# Altium integrated library NSC Amplifier.IntLib: 733 symbols (part 14 of 19)
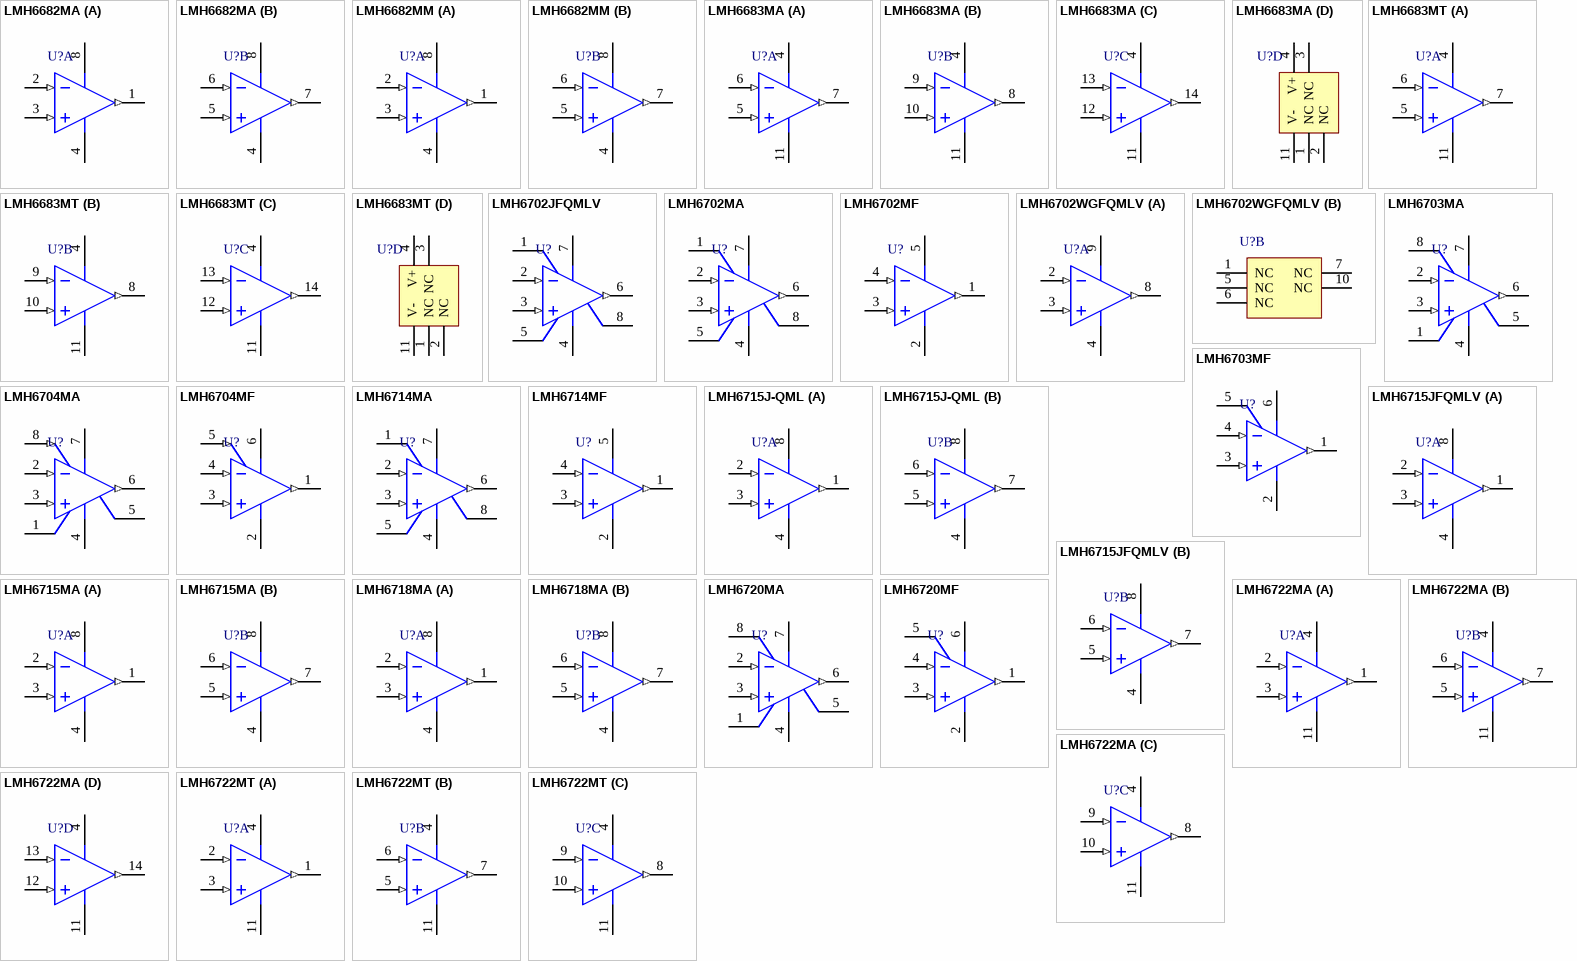
[diagram p52: symbols LMH6682MA to LMH6722MT]

## LMH6722MA
designator U?
Quad Wideband Video Op Amp; PartNumber: LMH6722MA; Manufacturer: National Semiconductor; CompType: Amplifiers; PackageTopMarking: NSUZXYTT*LMH67*22MA; PowerWise: Y; Published: 4-Dec-2008; LatestRevisionDate: 13-Jan-2009; LatestRevisionNote: Sim Model Added.; DatasheetVersion: Oct-2008; PackageVersion: revJ, Jan-1996; PackageReference: M14A; Publisher: Altium Limited; PackageDescription: Molded Package S.O., .150in Wide, 14 Lead; RoHS: O; PinCount: 14; DigiKeyPartNumber: LMH6722MA-ND; Code_JEDEC: MS-012AB; Code_IPC: SOIC127P600-14; ComponentLink1Description: LMH6722 Datasheet; ComponentLink1URL: http://www.national.com/ds/LM/LMH6722.pdf; ComponentLink2Description: LMH6722 Web Page; ComponentLink2URL: http://www.national.com/pf/LM/LMH6722.html; ComponentLink3Description: M14A Package Page; ComponentLink3URL: http://www.national.com/packaging/folders/m14a.html
footprint M14A_N (SOIC, 14-Leads, Body 8.6x3.9mm, Pitch 1.27mm, IPC Medium Density)
footprint M14A_L (SOIC, 14-Leads, Body 8.6x3.9mm, Pitch 1.27mm, IPC High Density)
footprint M14A_M (SOIC, 14-Leads, Body 8.6x3.9mm, Pitch 1.27mm, IPC Low Density)
simulation model LMH6722 (SUBCKT)
pins on every part: 4 V+ (power), 11 V- (power)
part A pins: 1 OUTA (out), 2 INA- (in), 3 INA+ (in)
part B pins: 5 INB+ (in), 6 INB- (in), 7 OUTB (out)
part C pins: 8 OUTC (out), 9 INC- (in), 10 INC+ (in)
part D pins: 12 IND+ (in), 13 IND- (in), 14 OUTD (out)

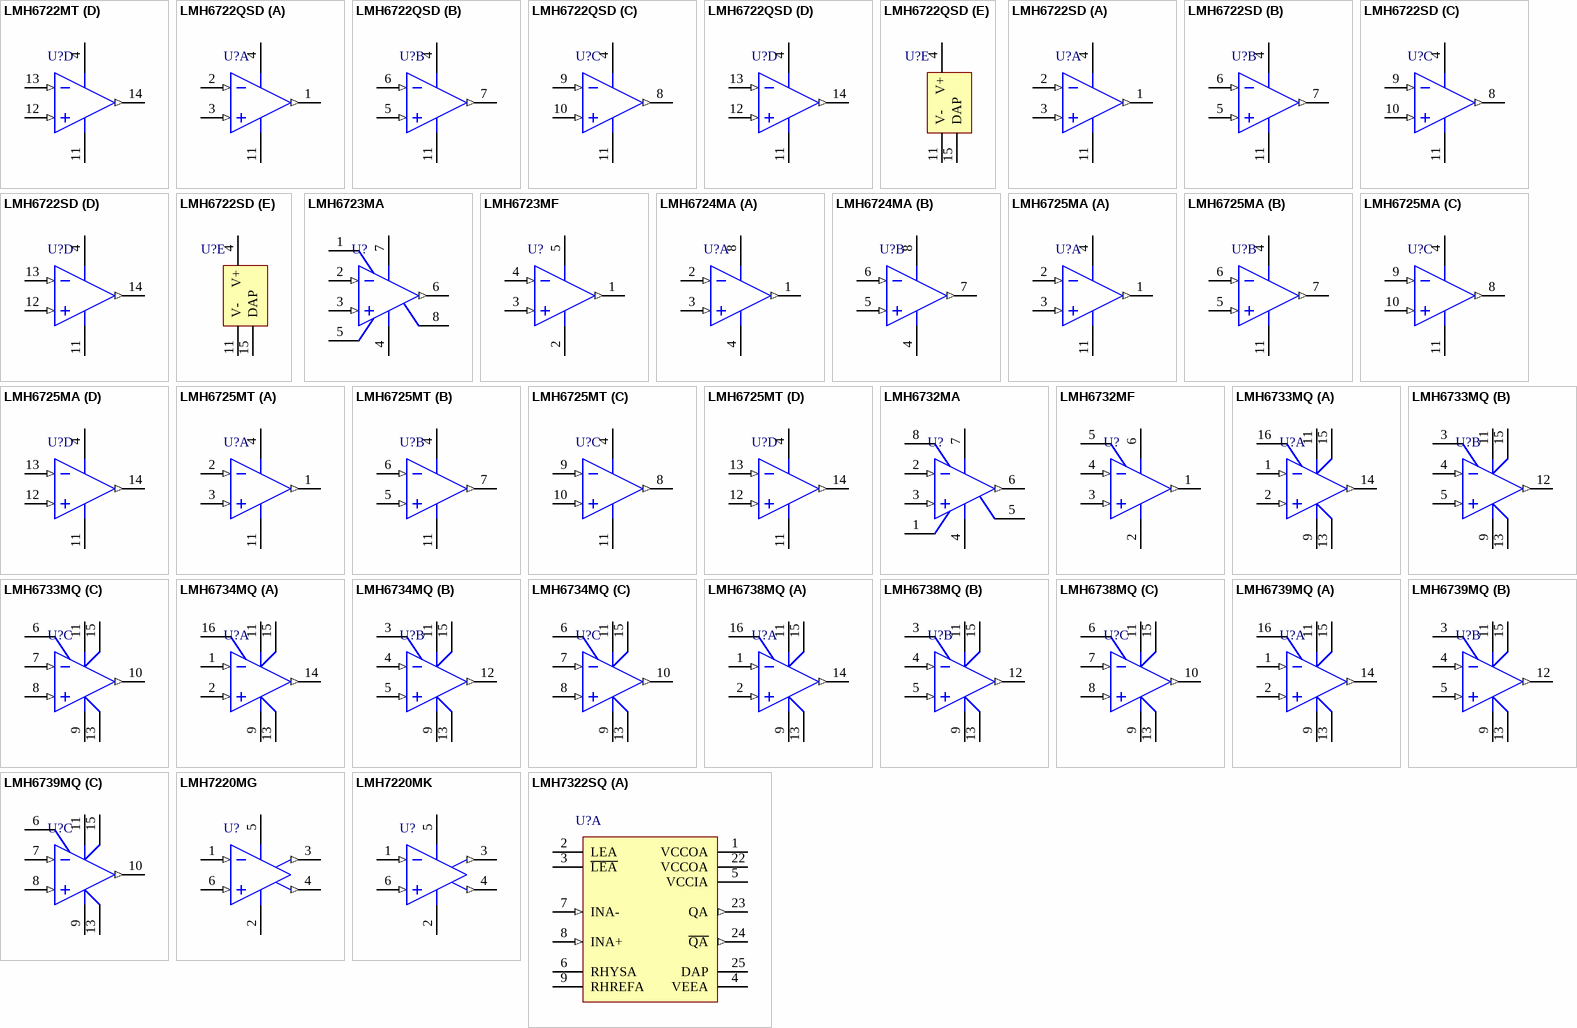
[diagram p29: symbols LMH6722MT to LMH7322SQ]

## LMH6722MT
designator U?
Quad Wideband Video Op Amp; PartNumber: LMH6722MT; Manufacturer: National Semiconductor; CompType: Amplifiers; PackageTopMarking: NSUZXYTT*LMH67*22MT; PowerWise: Y; Published: 4-Dec-2008; LatestRevisionDate: 13-Jan-2009; LatestRevisionNote: Sim Model Added.; DatasheetVersion: Oct-2008; PackageVersion: revD, Jun-2003; PackageReference: MTC14; Publisher: Altium Limited; PackageDescription: Molded TSSOP, JEDEC, 5 x 4.4 x 0.9mm Body, 14 Lead, 0.65mm Pitch; RoHS: Y; PinCount: 14; DigiKeyPartNumber: LMH6722MT-ND; Code_JEDEC: MO-153-AB-1; ComponentLink1Description: LMH6722 Datasheet; ComponentLink1URL: http://www.national.com/ds/LM/LMH6722.pdf; ComponentLink2Description: LMH6722 Web Page; ComponentLink2URL: http://www.national.com/pf/LM/LMH6722.html; ComponentLink3Description: MTC14 Package Page; ComponentLink3URL: http://www.national.com/packaging/folders/mtc14.html
footprint MTC14_N (TSOP, 14-Leads, Body 5x4.4mm, Pitch 0.65mm, IPC Medium Density)
footprint MTC14_L (TSOP, 14-Leads, Body 5x4.4mm, Pitch 0.65mm, IPC High Density)
footprint MTC14_M (TSOP, 14-Leads, Body 5x4.4mm, Pitch 0.65mm, IPC Low Density)
simulation model LMH6722 (SUBCKT)
pins on every part: 4 V+ (power), 11 V- (power)
part A pins: 1 OUTA (out), 2 INA- (in), 3 INA+ (in)
part B pins: 5 INB+ (in), 6 INB- (in), 7 OUTB (out)
part C pins: 8 OUTC (out), 9 INC- (in), 10 INC+ (in)
part D pins: 12 IND+ (in), 13 IND- (in), 14 OUTD (out)

## LMH6722QSD
designator U?
Quad Wideband Video Op Amp; PartNumber: LMH6722QSD; Manufacturer: National Semiconductor; CompType: Amplifiers; PackageTopMarking: ZXYTT*L6722Q; PowerWise: N; Published: 4-Dec-2008; DatasheetVersion: Oct-2008; PackageVersion: revA, Jun-2003; PackageReference: SDA14A; Publisher: Altium Limited; PackageDescription: LLP, Plastic, Dual, 4 x 3 x 0.8mm Body, 14 Lead, 0.5mm Pitch, No Pullback; RoHS: Y; PinCount: 14; ComponentLink1Description: LMH6722Q Datasheet; ComponentLink1URL: http://www.national.com/ds/LM/LMH6722.pdf; ComponentLink2Description: LMH6722Q Web Page; ComponentLink2URL: http://www.national.com/pf/LM/LMH6722Q.html; ComponentLink3Description: SDA14A Package Page; ComponentLink3URL: http://www.national.com/packaging/folders/sda14a.html
footprint SDA14A (SON, 14-Leads, Body 4x3mm, Pitch 0.5mm, NSC Recommended)
pins on every part: 4 V+ (power), 11 V- (power)
part A pins: 1 OUTA (out), 2 INA- (in), 3 INA+ (in)
part B pins: 5 INB+ (in), 6 INB- (in), 7 OUTB (out)
part C pins: 8 OUTC (out), 9 INC- (in), 10 INC+ (in)
part D pins: 12 IND+ (in), 13 IND- (in), 14 OUTD (out)
part E pins: 15 DAP

## LMH6722SD
designator U?
Quad Wideband Video Op Amp; PartNumber: LMH6722SD; Manufacturer: National Semiconductor; CompType: Amplifiers; PackageTopMarking: ZXYTT*L6722; PowerWise: N; Published: 4-Dec-2008; DatasheetVersion: Oct-2008; PackageVersion: revA, Jun-2003; PackageReference: SDA14A; Publisher: Altium Limited; PackageDescription: LLP, Plastic, Dual, 4 x 3 x 0.8mm Body, 14 Lead, 0.5mm Pitch, No Pullback; RoHS: Y; PinCount: 14; ComponentLink1Description: LMH6722 Datasheet; ComponentLink1URL: http://www.national.com/ds/LM/LMH6722.pdf; ComponentLink2Description: LMH6722 Web Page; ComponentLink2URL: http://www.national.com/pf/LM/LMH6722.html; ComponentLink3Description: SDA14A Package Page; ComponentLink3URL: http://www.national.com/packaging/folders/sda14a.html
footprint SDA14A (SON, 14-Leads, Body 4x3mm, Pitch 0.5mm, NSC Recommended)
pins on every part: 4 V+ (power), 11 V- (power)
part A pins: 1 OUTA (out), 2 INA- (in), 3 INA+ (in)
part B pins: 5 INB+ (in), 6 INB- (in), 7 OUTB (out)
part C pins: 8 OUTC (out), 9 INC- (in), 10 INC+ (in)
part D pins: 12 IND+ (in), 13 IND- (in), 14 OUTD (out)
part E pins: 15 DAP

## LMH6723MA
designator U?
Single/Quad 370 MHz 1 mA Current Feedback Op Amp; PartNumber: LMH6723MA; Manufacturer: National Semiconductor; CompType: Amplifiers; PackageTopMarking: NSZXTT*LMH67*23MA; PowerWise: Y; Published: 4-Dec-2008; LatestRevisionDate: 13-Jan-2009; LatestRevisionNote: Sim Model Added.; DatasheetVersion: Aug-2005; PackageVersion: revL, Sep-2006; PackageReference: M08A; Publisher: Altium Limited; PackageDescription: SOIC Narrow, 4.9 x 3.9 x 1.45mm, 8 Lead, 1.27mm Pitch; RoHS: O; PinCount: 8; DigiKeyPartNumber: LMH6723MA-ND; Code_JEDEC: MS-012-AA; Code_IPC: SOIC127P600-8; ComponentLink1Description: LMH6723 Datasheet; ComponentLink1URL: http://www.national.com/ds/LM/LMH6723.pdf; ComponentLink2Description: LMH6723 Web Page; ComponentLink2URL: http://www.national.com/pf/LM/LMH6723.html; ComponentLink3Description: M08A Package Page; ComponentLink3URL: http://www.national.com/packaging/folders/m08a.html
footprint M08A_N (SOIC, 8-Leads, Body 4.9x3.9mm, Pitch 1.27mm, IPC Medium Density)
footprint M08A_L (SOIC, 8-Leads, Body 4.9x3.9mm, Pitch 1.27mm, IPC High Density)
footprint M08A_M (SOIC, 8-Leads, Body 4.9x3.9mm, Pitch 1.27mm, IPC Low Density)
simulation model LMH6723 (SUBCKT)
pins: 1 NC, 2 IN- (in), 3 IN+ (in), 4 V- (power), 5 NC, 6 OUT (out), 7 V+ (power), 8 NC

## LMH6723MF
designator U?
Single/Quad 370 MHz 1 mA Current Feedback Op Amp; PartNumber: LMH6723MF; Manufacturer: National Semiconductor; CompType: Amplifiers; PackageTopMarking: AB1A*XTT; Published: 4-Dec-2008; LatestRevisionDate: 13-Jan-2009; LatestRevisionNote: Sim Model Added.; DatasheetVersion: Aug-2005; PackageVersion: revD, Aug-2008; PackageReference: MF05A; Publisher: Altium Limited; PackageDescription: Molded SOT-23, .115 x .063 x .040 in Body, 5 Lead, .0375 in Pitch; RoHS: Y; PinCount: 5; DigiKeyPartNumber: LMH6723MFCT-ND; Code_IPC: SOT23-5; ComponentLink1Description: LMH6723 Datasheet; ComponentLink1URL: http://www.national.com/ds/LM/LMH6723.pdf; ComponentLink2Description: LMH6723 Web Page; ComponentLink2URL: http://www.national.com/pf/LM/LMH6723.html; ComponentLink3Description: MF05A Package Page; ComponentLink3URL: http://www.national.com/packaging/folders/mf05a.html
footprint MF05A_N (SOT23, 5-Leads, Body 2.9x1.6mm, Pitch 0.95mm, Lead Span 2.8mm, IPC Medium Density)
footprint MF05A_L (SOT23, 5-Leads, Body 2.9x1.6mm, Pitch 0.95mm, Lead Span 2.8mm, IPC High Density)
footprint MF05A_M (SOT23, 5-Leads, Body 2.9x1.6mm, Pitch 0.95mm, Lead Span 2.8mm, IPC Low Density)
simulation model LMH6723 (SUBCKT)
pins: 1 OUT (out), 2 V- (power), 3 IN+ (in), 4 IN- (in), 5 V+ (power)

## LMH6724MA
designator U?
Single/Dual/Quad 370 MHz 1 mA Current Feedback Op Amp; PartNumber: LMH6724MA; Manufacturer: National Semiconductor; CompType: Amplifiers; PackageTopMarking: NSZXTT*LMH67*24MA; PowerWise: Y; Published: 4-Dec-2008; LatestRevisionDate: 13-Jan-2009; LatestRevisionNote: Sim Model Added.; DatasheetVersion: Aug-2005; PackageVersion: revL, Sep-2006; PackageReference: M08A; Publisher: Altium Limited; PackageDescription: SOIC Narrow, 4.9 x 3.9 x 1.45mm, 8 Lead, 1.27mm Pitch; RoHS: Y; PinCount: 8; DigiKeyPartNumber: LMH6724MA-ND; Code_JEDEC: MS-012-AA; Code_IPC: SOIC127P600-8; ComponentLink1Description: LMH6724 Datasheet; ComponentLink1URL: http://www.national.com/ds/LM/LMH6724.pdf; ComponentLink2Description: LMH6724 Web Page; ComponentLink2URL: http://www.national.com/pf/LM/LMH6724.html; ComponentLink3Description: M08A Package Page; ComponentLink3URL: http://www.national.com/packaging/folders/m08a.html
footprint M08A_N (SOIC, 8-Leads, Body 4.9x3.9mm, Pitch 1.27mm, IPC Medium Density)
footprint M08A_L (SOIC, 8-Leads, Body 4.9x3.9mm, Pitch 1.27mm, IPC High Density)
footprint M08A_M (SOIC, 8-Leads, Body 4.9x3.9mm, Pitch 1.27mm, IPC Low Density)
simulation model LMH6723 (SUBCKT)
pins on every part: 4 V- (power), 8 V+ (power)
part A pins: 1 OUTA (out), 2 INA- (in), 3 INA+ (in)
part B pins: 5 INB+ (in), 6 INB- (in), 7 OUTB (out)

## LMH6725MA
designator U?
Single/Quad 370 MHz 1 mA Current Feedback Op Amp; PartNumber: LMH6725MA; Manufacturer: National Semiconductor; CompType: Amplifiers; PackageTopMarking: NSUZXYTT*LMH67*25MA; PowerWise: Y; Published: 4-Dec-2008; LatestRevisionDate: 13-Jan-2009; LatestRevisionNote: Sim Model Added.; DatasheetVersion: Aug-2005; PackageVersion: revJ, Jan-1996; PackageReference: M14A; Publisher: Altium Limited; PackageDescription: Molded Package S.O., .150in Wide, 14 Lead; RoHS: Y; PinCount: 14; DigiKeyPartNumber: LMH6725MA-ND; Code_JEDEC: MS-012AB; Code_IPC: SOIC127P600-14; ComponentLink1Description: LMH6725 Datasheet; ComponentLink1URL: http://www.national.com/ds/LM/LMH6725.pdf; ComponentLink2Description: LMH6725 Web Page; ComponentLink2URL: http://www.national.com/pf/LM/LMH6725.html; ComponentLink3Description: M14A Package Page; ComponentLink3URL: http://www.national.com/packaging/folders/m14a.html
footprint M14A_N (SOIC, 14-Leads, Body 8.6x3.9mm, Pitch 1.27mm, IPC Medium Density)
footprint M14A_L (SOIC, 14-Leads, Body 8.6x3.9mm, Pitch 1.27mm, IPC High Density)
footprint M14A_M (SOIC, 14-Leads, Body 8.6x3.9mm, Pitch 1.27mm, IPC Low Density)
simulation model LMH6723 (SUBCKT)
pins on every part: 4 V+ (power), 11 V- (power)
part A pins: 1 OUTA (out), 2 INA- (in), 3 INA+ (in)
part B pins: 5 INB+ (in), 6 INB- (in), 7 OUTB (out)
part C pins: 8 OUTC (out), 9 INC- (in), 10 INC+ (in)
part D pins: 12 IND+ (in), 13 IND- (in), 14 OUTD (out)

## LMH6725MT
designator U?
Single/Quad 370 MHz 1 mA Current Feedback Op Amp; PartNumber: LMH6725MT; Manufacturer: National Semiconductor; CompType: Amplifiers; PackageTopMarking: NSUZXYTT*LMH67*25MT; PowerWise: Y; Published: 4-Dec-2008; LatestRevisionDate: 13-Jan-2009; LatestRevisionNote: Sim Model Added.; DatasheetVersion: Aug-2005; PackageVersion: revD, Jun-2003; PackageReference: MTC14; Publisher: Altium Limited; PackageDescription: Molded TSSOP, JEDEC, 5 x 4.4 x 0.9mm Body, 14 Lead, 0.65mm Pitch; RoHS: Y; PinCount: 14; DigiKeyPartNumber: LMH6725MT-ND; Code_JEDEC: MO-153-AB-1; ComponentLink1Description: LMH6725 Datasheet; ComponentLink1URL: http://www.national.com/ds/LM/LMH6725.pdf; ComponentLink2Description: LMH6725 Web Page; ComponentLink2URL: http://www.national.com/pf/LM/LMH6725.html; ComponentLink3Description: MTC14 Package Page; ComponentLink3URL: http://www.national.com/packaging/folders/mtc14.html
footprint MTC14_N (TSOP, 14-Leads, Body 5x4.4mm, Pitch 0.65mm, IPC Medium Density)
footprint MTC14_L (TSOP, 14-Leads, Body 5x4.4mm, Pitch 0.65mm, IPC High Density)
footprint MTC14_M (TSOP, 14-Leads, Body 5x4.4mm, Pitch 0.65mm, IPC Low Density)
simulation model LMH6723 (SUBCKT)
pins on every part: 4 V+ (power), 11 V- (power)
part A pins: 1 OUTA (out), 2 INA- (in), 3 INA+ (in)
part B pins: 5 INB+ (in), 6 INB- (in), 7 OUTB (out)
part C pins: 8 OUTC (out), 9 INC- (in), 10 INC+ (in)
part D pins: 12 IND+ (in), 13 IND- (in), 14 OUTD (out)

## LMH6732MA
designator U?
High Speed Op Amp with Adjustable Bandwidth; PartNumber: LMH6732MA; Manufacturer: National Semiconductor; CompType: Amplifiers; PackageTopMarking: NSZXTT*LMH67*32MA; PowerWise: Y; Published: 4-Dec-2008; DatasheetVersion: Mar-2004; PackageVersion: revL, Sep-2006; PackageReference: M08A; Publisher: Altium Limited; PackageDescription: SOIC Narrow, 4.9 x 3.9 x 1.45mm, 8 Lead, 1.27mm Pitch; RoHS: O; PinCount: 8; DigiKeyPartNumber: LMH6732MA-ND; Code_JEDEC: MS-012-AA; Code_IPC: SOIC127P600-8; ComponentLink1Description: LMH6732 Datasheet; ComponentLink1URL: http://www.national.com/ds/LM/LMH6732.pdf; ComponentLink2Description: LMH6732 Web Page; ComponentLink2URL: http://www.national.com/pf/LM/LMH6732.html; ComponentLink3Description: M08A Package Page; ComponentLink3URL: http://www.national.com/packaging/folders/m08a.html
footprint M08A_N (SOIC, 8-Leads, Body 4.9x3.9mm, Pitch 1.27mm, IPC Medium Density)
footprint M08A_L (SOIC, 8-Leads, Body 4.9x3.9mm, Pitch 1.27mm, IPC High Density)
footprint M08A_M (SOIC, 8-Leads, Body 4.9x3.9mm, Pitch 1.27mm, IPC Low Density)
pins: 1 NC, 2 IN- (in), 3 IN+ (in), 4 V- (power), 5 NC, 6 OUT (out), 7 V+ (power), 8 RP

## LMH6732MF
designator U?
High Speed Op Amp with Adjustable Bandwidth; PartNumber: LMH6732MF; Manufacturer: National Semiconductor; CompType: Amplifiers; PackageTopMarking: A97A*XTT; PowerWise: Y; Published: 4-Dec-2008; DatasheetVersion: Mar-2004; PackageVersion: revC, Sep-2005; PackageReference: MF06A; Publisher: Altium Limited; PackageDescription: Molded SOT-23, .115 x .063 x .040in Body, 6 Lead, .0375in in Pitch; RoHS: Y; PinCount: 6; DigiKeyPartNumber: LMH6732MFCT-ND; Code_JEDEC: MO-178-AB; Code_IPC: SOT26A-6; ComponentLink1Description: LMH6732 Datasheet; ComponentLink1URL: http://www.national.com/ds/LM/LMH6732.pdf; ComponentLink2Description: LMH6732 Web Page; ComponentLink2URL: http://www.national.com/pf/LM/LMH6732.html; ComponentLink3Description: MF06A Package Page; ComponentLink3URL: http://www.national.com/packaging/folders/mf06a.html
footprint MF06A_N (SOT23, 6-Leads, Body 2.9x1.6mm, Pitch 0.95mm, Lead Span 2.8mm, IPC Medium Density)
footprint MF06A_L (SOT23, 6-Leads, Body 2.9x1.6mm, Pitch 0.95mm, Lead Span 2.8mm, IPC High Density)
footprint MF06A_M (SOT23, 6-Leads, Body 2.9x1.6mm, Pitch 0.95mm, Lead Span 2.8mm, IPC Low Density)
pins: 1 OUT (out), 2 V- (power), 3 IN+ (in), 4 IN- (in), 5 RP, 6 V+ (power)

## LMH6733MQ
designator U?
Single Supply, 1.0 GHz, Triple Operational  Amplifier; PartNumber: LMH6733MQ; Manufacturer: National Semiconductor; CompType: Amplifiers; PackageTopMarking: NSXYTT*LH67*33MQ; PowerWise: Y; Published: 4-Dec-2008; LatestRevisionDate: 13-Jan-2009; LatestRevisionNote: Sim Model Added.; DatasheetVersion: Jan-2007; PackageVersion: revB, Jan-2005; PackageReference: MQA16; Publisher: Altium Limited; PackageDescription: SSOP, .150in Body Width, .025in Pitch, 16 Lead; RoHS: Y; PinCount: 16; DigiKeyPartNumber: LMH6733MQ-ND; Code_JEDEC: MO-137-AB; ComponentLink1Description: LMH6733 Datasheet; ComponentLink1URL: http://www.national.com/ds/LM/LMH6733.pdf; ComponentLink2Description: LMH6733 Web Page; ComponentLink2URL: http://www.national.com/pf/LM/LMH6733.html; ComponentLink3Description: MQA16 Package Page; ComponentLink3URL: http://www.national.com/packaging/folders/mqa16.html
footprint MQA16_N (SOP, 16-Leads, Body 4.9x3.9mm, Pitch 0.635mm, IPC Medium Density)
footprint MQA16_L (SOP, 16-Leads, Body 4.9x3.9mm, Pitch 0.635mm, IPC High Density)
footprint MQA16_M (SOP, 16-Leads, Body 4.9x3.9mm, Pitch 0.635mm, IPC Low Density)
simulation model LMH6733 (SUBCKT)
pins on every part: 9 VS- (power), 11 VS+ (power), 13 VS- (power), 15 VS+ (power)
part A pins: 1 INA- (in), 2 INA+ (in), 14 OUTA (out), 16 ~{DIS A}
part B pins: 3 ~{DIS B}, 4 INB- (in), 5 INB+ (in), 12 OUTB (out)
part C pins: 6 ~{DIS C}, 7 INC- (in), 8 INC+ (in), 10 OUTC (out)

## LMH6734MQ
designator U?
Single Supply, Ultra High-Speed, Triple Selectable Gain Buffer; PartNumber: LMH6734MQ; Manufacturer: National Semiconductor; CompType: Amplifiers; PackageTopMarking: NSXYTT*LH67*34MQ; PowerWise: Y; Published: 4-Dec-2008; DatasheetVersion: Sep-2007; PackageVersion: revB, Jan-2005; PackageReference: MQA16; Publisher: Altium Limited; PackageDescription: SSOP, .150in Body Width, .025in Pitch, 16 Lead; RoHS: Y; PinCount: 16; DigiKeyPartNumber: LMH6734MQ-ND; Code_JEDEC: MO-137-AB; ComponentLink1Description: LMH6734 Datasheet; ComponentLink1URL: http://www.national.com/ds/LM/LMH6734.pdf; ComponentLink2Description: LMH6734 Web Page; ComponentLink2URL: http://www.national.com/pf/LM/LMH6734.html; ComponentLink3Description: MQA16 Package Page; ComponentLink3URL: http://www.national.com/packaging/folders/mqa16.html
footprint MQA16_N (SOP, 16-Leads, Body 4.9x3.9mm, Pitch 0.635mm, IPC Medium Density)
footprint MQA16_L (SOP, 16-Leads, Body 4.9x3.9mm, Pitch 0.635mm, IPC High Density)
footprint MQA16_M (SOP, 16-Leads, Body 4.9x3.9mm, Pitch 0.635mm, IPC Low Density)
pins on every part: 9 VS- (power), 11 VS+ (power), 13 VS- (power), 15 VS+ (power)
part A pins: 1 INA- (in), 2 INA+ (in), 14 OUTA (out), 16 ~{DIS A}
part B pins: 3 ~{DIS B}, 4 INB- (in), 5 INB+ (in), 12 OUTB (out)
part C pins: 6 ~{DIS C}, 7 INC- (in), 8 INC+ (in), 10 OUTC (out)

## LMH6738MQ
designator U?
Very Wideband, Low Distortion Triple Op Amp; PartNumber: LMH6738MQ; Manufacturer: National Semiconductor; CompType: Amplifiers; PackageTopMarking: NSXYTT*LH67*38MQ; PowerWise: Y; Published: 4-Dec-2008; LatestRevisionDate: 13-Jan-2009; LatestRevisionNote: Sim Model Added.; DatasheetVersion: Apr-2006; PackageVersion: revB, Jan-2005; PackageReference: MQA16; Publisher: Altium Limited; PackageDescription: SSOP, .150in Body Width, .025in Pitch, 16 Lead; RoHS: Y; PinCount: 16; DigiKeyPartNumber: LMH6738MQ-ND; Code_JEDEC: MO-137-AB; ComponentLink1Description: LMH6738 Datasheet; ComponentLink1URL: http://www.national.com/ds/LM/LMH6738.pdf; ComponentLink2Description: LMH6738 Web Page; ComponentLink2URL: http://www.national.com/pf/LM/LMH6738.html; ComponentLink3Description: MQA16 Package Page; ComponentLink3URL: http://www.national.com/packaging/folders/mqa16.html
footprint MQA16_N (SOP, 16-Leads, Body 4.9x3.9mm, Pitch 0.635mm, IPC Medium Density)
footprint MQA16_L (SOP, 16-Leads, Body 4.9x3.9mm, Pitch 0.635mm, IPC High Density)
footprint MQA16_M (SOP, 16-Leads, Body 4.9x3.9mm, Pitch 0.635mm, IPC Low Density)
simulation model LMH6738 (SUBCKT)
pins on every part: 9 VS- (power), 11 VS+ (power), 13 VS- (power), 15 VS+ (power)
part A pins: 1 INA- (in), 2 INA+ (in), 14 OUTA (out), 16 ~{DIS A}
part B pins: 3 ~{DIS B}, 4 INB- (in), 5 INB+ (in), 12 OUTB (out)
part C pins: 6 ~{DIS C}, 7 INC- (in), 8 INC+ (in), 10 OUTC (out)

## LMH6739MQ
designator U?
Very Wideband, Low Distortion Triple Video Buffer; PartNumber: LMH6739MQ; Manufacturer: National Semiconductor; CompType: Amplifiers; PackageTopMarking: NSXYTT*LH67*39MQ; PowerWise: N; Published: 4-Dec-2008; LatestRevisionDate: 13-Jan-2009; LatestRevisionNote: Sim Model Added.; DatasheetVersion: Dec-2007; PackageVersion: revB, Jan-2005; PackageReference: MQA16; Publisher: Altium Limited; PackageDescription: SSOP, .150in Body Width, .025in Pitch, 16 Lead; RoHS: O; PinCount: 16; DigiKeyPartNumber: LMH6739MQ-ND; Code_JEDEC: MO-137-AB; ComponentLink1Description: LMH6739 Datasheet; ComponentLink1URL: http://www.national.com/ds/LM/LMH6739.pdf; ComponentLink2Description: LMH6739 Web Page; ComponentLink2URL: http://www.national.com/pf/LM/LMH6739.html; ComponentLink3Description: MQA16 Package Page; ComponentLink3URL: http://www.national.com/packaging/folders/mqa16.html
footprint MQA16_N (SOP, 16-Leads, Body 4.9x3.9mm, Pitch 0.635mm, IPC Medium Density)
footprint MQA16_L (SOP, 16-Leads, Body 4.9x3.9mm, Pitch 0.635mm, IPC High Density)
footprint MQA16_M (SOP, 16-Leads, Body 4.9x3.9mm, Pitch 0.635mm, IPC Low Density)
simulation model LMH6739 (SUBCKT)
pins on every part: 9 VS- (power), 11 VS+ (power), 13 VS- (power), 15 VS+ (power)
part A pins: 1 INA- (in), 2 INA+ (in), 14 OUTA (out), 16 ~{DIS A}
part B pins: 3 ~{DIS B}, 4 INB- (in), 5 INB+ (in), 12 OUTB (out)
part C pins: 6 ~{DIS C}, 7 INC- (in), 8 INC+ (in), 10 OUTC (out)

## LMH7220MG
designator U?
High Speed Comparator with LVDS Output; PartNumber: LMH7220MG; Manufacturer: National Semiconductor; CompType: Amplifiers; PackageTopMarking: C38*XTT; PowerWise: Y; Published: 4-Dec-2008; DatasheetVersion: May-2008; PackageVersion: revB, Jun-2007; PackageReference: MAA06A; Publisher: Altium Limited; PackageDescription: Molded SC-70, 2 x 1.25 x .9mm, 6 Lead, 0.65mm Pitch; RoHS: Y; PinCount: 6; DigiKeyPartNumber: LMH7220MG-ND; ComponentLink1Description: LMH7220 Datasheet; ComponentLink1URL: http://www.national.com/ds/LM/LMH7220.pdf; ComponentLink2Description: LMH7220 Web Page; ComponentLink2URL: http://www.national.com/pf/LM/LMH7220.html; ComponentLink3Description: MAA06A Package Page; ComponentLink3URL: http://www.national.com/packaging/folders/maa06a.html
footprint MAA06A_N (SOT363, 6-Leads, Body 2x1.3mm, Pitch 0.65mm, Lead Span 2.1mm, IPC Medium Density)
footprint MAA06A_L (SOT363, 6-Leads, Body 2x1.3mm, Pitch 0.65mm, Lead Span 2.1mm, IPC High Density)
footprint MAA06A_M (SOT363, 6-Leads, Body 2x1.3mm, Pitch 0.65mm, Lead Span 2.1mm, IPC Low Density)
pins: 1 IN- (in), 2 GND (power), 3 OUT ~{Q} (out), 4  OUT Q (out), 5 VCC (power), 6 IN+ (in)

## LMH7220MK
designator U?
High Speed Comparator with LVDS Output; PartNumber: LMH7220MK; Manufacturer: National Semiconductor; CompType: Amplifiers; PackageTopMarking: C29A*XTT; PowerWise: Y; Published: 4-Dec-2008; DatasheetVersion: May-2008; PackageVersion: revD, Jul-2005; PackageReference: MK06A; Publisher: Altium Limited; PackageDescription: Molded TSOT, 2.97 x 1.65 x 0.87mm Body, 6 Lead, 0.95mm Pitch; RoHS: Y; PinCount: 6; DigiKeyPartNumber: LMH7220MKCT-ND; Code_JEDEC: MO-193-AA; Code_IPC: SOT26A-6; ComponentLink1Description: LMH7220 Datasheet; ComponentLink1URL: http://www.national.com/ds/LM/LMH7220.pdf; ComponentLink2Description: LMH7220 Web Page; ComponentLink2URL: http://www.national.com/pf/LM/LMH7220.html; ComponentLink3Description: MK06A Package Page; ComponentLink3URL: http://www.national.com/packaging/folders/mk06a.html
footprint MK06A_N (SOT23, 6-Leads, Body 3.0x1.7mm, Pitch 0.95mm, Lead Span 2.9mm, IPC Medium Density)
footprint MK06A_L (SOT23, 6-Leads, Body 3.0x1.7mm, Pitch 0.95mm, Lead Span 2.9mm, IPC High Density)
footprint MK06A_M (SOT23, 6-Leads, Body 3.0x1.7mm, Pitch 0.95mm, Lead Span 2.9mm, IPC Low Density)
pins: 1 IN- (in), 2 GND (power), 3 OUT ~{Q} (out), 4  OUT Q (out), 5 VCC (power), 6 IN+ (in)

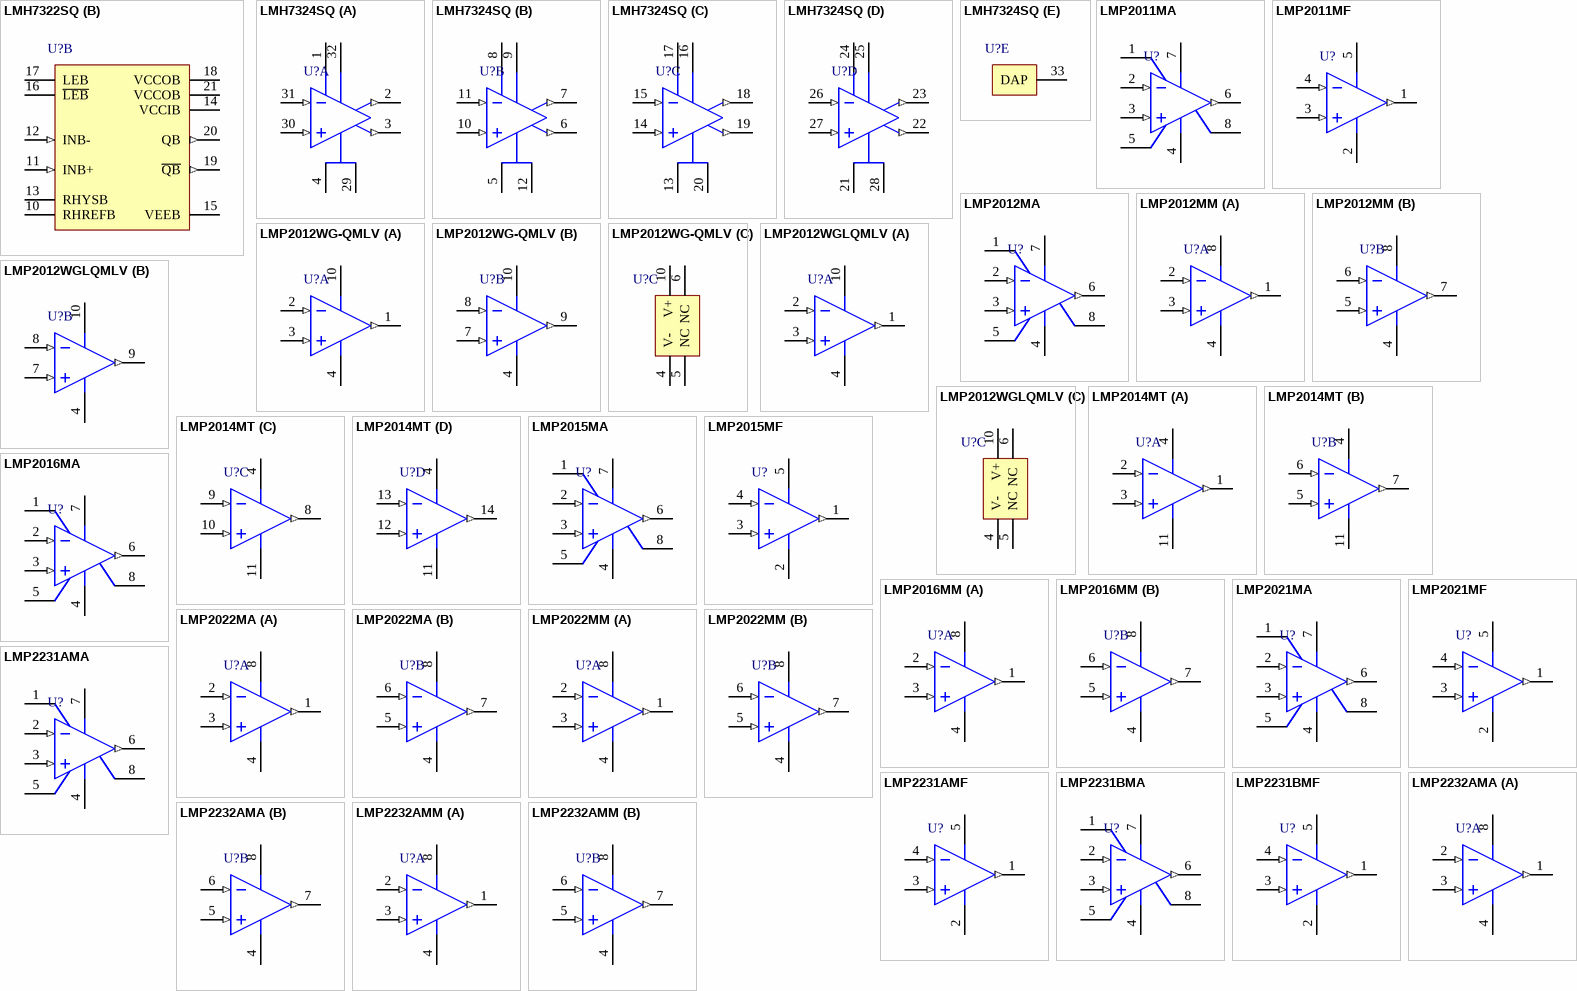
[diagram p30: symbols LMH7322SQ to LMP2232AMM]

## LMH7322SQ
designator U?
Dual 700 ps High Speed Comparator with RSPECL Outputs; PartNumber: LMH7322SQ; Manufacturer: National Semiconductor; CompType: Amplifiers; PackageTopMarking: NS*UZXYTT*L7322SQ; PowerWise: Y; Published: 4-Dec-2008; DatasheetVersion: May-2008; PackageVersion: revB, Aug-2003; PackageReference: SQA24A; Publisher: Altium Limited; PackageDescription: LLP, Plastic, Quad, 4 x 4 x 0.8mm Body, 24 Lead, 0.5mm Pitch, No Pullback; RoHS: Y; PinCount: 24; DigiKeyPartNumber: LMH7322SQCT-ND; Code_JEDEC: MO-220-WGGD-6; ComponentLink1Description: LMH7322 Datasheet; ComponentLink1URL: http://www.national.com/ds/LM/LMH7322.pdf; ComponentLink2Description: LMH7322 Web Page; ComponentLink2URL: http://www.national.com/pf/LM/LMH7322.html; ComponentLink3Description: SQA24A Package Page; ComponentLink3URL: http://www.national.com/packaging/folders/sqa24a.html
footprint SQA24A (QFN, 24-Leads, Body 4x4mm, Pitch 0.5mm, NSC Recommended)
part A pins: 1 VCCOA (power), 2 LEA, 3 ~{LEA}, 4 VEEA (power), 5 VCCIA (power), 6 RHYSA, 7 INA- (in), 8 INA+ (in), 9 RHREFA, 22 VCCOA (power), 23 QA (out), 24 ~{QA} (out), 25 DAP (power)
part B pins: 10 RHREFB, 11 INB+ (in), 12 INB- (in), 13 RHYSB, 14 VCCIB (power), 15 VEEB (power), 16 ~{LEB}, 17 LEB, 18 VCCOB (power), 19 ~{QB} (out), 20 QB (out), 21 VCCOB (power)

## LMH7324SQ
designator U?
Quad 700 ps High Speed Comparator with RSPECL Outputs; PartNumber: LMH7324SQ; Manufacturer: National Semiconductor; CompType: Amplifiers; PackageTopMarking: NS*UZXYTT*L7324SQ; PowerWise: Y; Published: 4-Dec-2008; DatasheetVersion: May-2008; PackageVersion: revA, Jul-2004; PackageReference: SQA32A; Publisher: Altium Limited; PackageDescription: LLP, Quad, 5 x 5 x 0.8mm, 32 Lead, 0.5mm Pitch, No Pullback 3.1 x 3.1 Exposed Pad; RoHS: Y; PinCount: 32; DigiKeyPartNumber: LMH7324SQCT-ND; ComponentLink1Description: LMH7324 Datasheet; ComponentLink1URL: http://www.national.com/ds/LM/LMH7324.pdf; ComponentLink2Description: LMH7324 Web Page; ComponentLink2URL: http://www.national.com/pf/LM/LMH7324.html; ComponentLink3Description: SQA32A Package Page; ComponentLink3URL: http://www.national.com/packaging/folders/sqa32a.html
footprint SQA32A (QFN, 32-Leads, Body 5x5mm, Pitch 0.5mm, NSC Recommended)
part A pins: 1 VCCOA (power), 2 ~{QA} (out), 3 QA (out), 4 VEEA (power), 29 VEEA (power), 30 INA+ (in), 31 INA- (in), 32 VCCIA (power)
part B pins: 5 VEEB (power), 6 QB (out), 7 ~{QB} (out), 8 VCCOB (power), 9 VCCIB (power), 10 INB+ (in), 11 INB- (in), 12 VEEB (power)
part C pins: 13 VEEC (power), 14 INC+ (in), 15 INC- (in), 16 VCCIC (power), 17 VCCOC (power), 18 ~{QC} (out), 19 QC (out), 20 VEEC (power)
part D pins: 21 VEED (power), 22 QD (out), 23 ~{QD} (out), 24 VCCOD (power), 25 VCCID (power), 26 IND- (in), 27 IND+ (in), 28 VEED (power)
part E pins: 33 DAP

## LMP2011MA
designator U?
Single, High Precision, Rail-to-Rail Output Operational Amplifier; PartNumber: LMP2011MA; Manufacturer: National Semiconductor; CompType: Amplifiers; PackageTopMarking: NSZXTT*LMP20*11MA; PowerWise: N; Published: 4-Dec-2008; LatestRevisionDate: 13-Jan-2009; LatestRevisionNote: Sim Model Added.; DatasheetVersion: Jul-2008; PackageVersion: revL, Sep-2006; PackageReference: M08A; Publisher: Altium Limited; PackageDescription: SOIC Narrow, 4.9 x 3.9 x 1.45mm, 8 Lead, 1.27mm Pitch; RoHS: Y; PinCount: 8; DigiKeyPartNumber: LMP2011MA-ND; Code_JEDEC: MS-012-AA; Code_IPC: SOIC127P600-8; ComponentLink1Description: LMP2011 Datasheet; ComponentLink1URL: http://www.national.com/ds/LM/LMP2011.pdf; ComponentLink2Description: LMP2011 Web Page; ComponentLink2URL: http://www.national.com/pf/LM/LMP2011.html; ComponentLink3Description: M08A Package Page; ComponentLink3URL: http://www.national.com/packaging/folders/m08a.html
footprint M08A_N (SOIC, 8-Leads, Body 4.9x3.9mm, Pitch 1.27mm, IPC Medium Density)
footprint M08A_L (SOIC, 8-Leads, Body 4.9x3.9mm, Pitch 1.27mm, IPC High Density)
footprint M08A_M (SOIC, 8-Leads, Body 4.9x3.9mm, Pitch 1.27mm, IPC Low Density)
simulation model LMP2011 (SUBCKT)
pins: 1 NC, 2 IN- (in), 3 IN+ (in), 4 V- (power), 5 NC, 6 OUT (out), 7 V+ (power), 8 NC

## LMP2011MF
designator U?
Single, High Precision, Rail-to-Rail Output Operational Amplifier; PartNumber: LMP2011MF; Manufacturer: National Semiconductor; CompType: Amplifiers; PackageTopMarking: AN1A*XTT; PowerWise: N; Published: 4-Dec-2008; LatestRevisionDate: 13-Jan-2009; LatestRevisionNote: Sim Model Added.; DatasheetVersion: Jul-2008; PackageVersion: revD, Aug-2008; PackageReference: MF05A; Publisher: Altium Limited; PackageDescription: Molded SOT-23, .115 x .063 x .040 in Body, 5 Lead, .0375 in Pitch; RoHS: Y; PinCount: 5; DigiKeyPartNumber: LMP2011MFCT-ND; Code_IPC: SOT23-5; ComponentLink1Description: LMP2011 Datasheet; ComponentLink1URL: http://www.national.com/ds/LM/LMP2011.pdf; ComponentLink2Description: LMP2011 Web Page; ComponentLink2URL: http://www.national.com/pf/LM/LMP2011.html; ComponentLink3Description: MF05A Package Page; ComponentLink3URL: http://www.national.com/packaging/folders/mf05a.html
footprint MF05A_N (SOT23, 5-Leads, Body 2.9x1.6mm, Pitch 0.95mm, Lead Span 2.8mm, IPC Medium Density)
footprint MF05A_L (SOT23, 5-Leads, Body 2.9x1.6mm, Pitch 0.95mm, Lead Span 2.8mm, IPC High Density)
footprint MF05A_M (SOT23, 5-Leads, Body 2.9x1.6mm, Pitch 0.95mm, Lead Span 2.8mm, IPC Low Density)
simulation model LMP2011 (SUBCKT)
pins: 1 OUT (out), 2 V- (power), 3 IN+ (in), 4 IN- (in), 5 V+ (power)

## LMP2012MA
designator U?
Dual, High Precision, Rail-to-Rail Output Operational Amplifier; PartNumber: LMP2012MA; Manufacturer: National Semiconductor; CompType: Amplifiers; PackageTopMarking: NSZXTT*LMP20*12MA; PowerWise: N; Published: 4-Dec-2008; LatestRevisionDate: 13-Jan-2009; LatestRevisionNote: Sim Model Added.; DatasheetVersion: Jul-2008; PackageVersion: revL, Sep-2006; PackageReference: M08A; Publisher: Altium Limited; PackageDescription: SOIC Narrow, 4.9 x 3.9 x 1.45mm, 8 Lead, 1.27mm Pitch; RoHS: Y; PinCount: 8; DigiKeyPartNumber: LMP2012MA-ND; Code_JEDEC: MS-012-AA; Code_IPC: SOIC127P600-8; ComponentLink1Description: LMP2012 Datasheet; ComponentLink1URL: http://www.national.com/ds/LM/LMP2012.pdf; ComponentLink2Description: LMP2012 Web Page; ComponentLink2URL: http://www.national.com/pf/LM/LMP2012.html; ComponentLink3Description: M08A Package Page; ComponentLink3URL: http://www.national.com/packaging/folders/m08a.html
footprint M08A_N (SOIC, 8-Leads, Body 4.9x3.9mm, Pitch 1.27mm, IPC Medium Density)
footprint M08A_L (SOIC, 8-Leads, Body 4.9x3.9mm, Pitch 1.27mm, IPC High Density)
footprint M08A_M (SOIC, 8-Leads, Body 4.9x3.9mm, Pitch 1.27mm, IPC Low Density)
simulation model LMP2011 (SUBCKT)
pins: 1 NC, 2 IN- (in), 3 IN+ (in), 4 V- (power), 5 NC, 6 OUT (out), 7 V+ (power), 8 NC

## LMP2012MM
designator U?
Dual, High Precision, Rail-to-Rail Output Operational Amplifier; PartNumber: LMP2012MM; Manufacturer: National Semiconductor; CompType: Amplifiers; PackageTopMarking: ZXTT*AP1A; PowerWise: N; Published: 4-Dec-2008; LatestRevisionDate: 13-Jan-2009; LatestRevisionNote: Sim Model Added.; DatasheetVersion: Jul-2008; PackageVersion: revF, Apr-2008; PackageReference: MUA08A; Publisher: Altium Limited; PackageDescription: MINI SOIC, .118 x .118 x .034in, 8 Lead, .0256in Pitch; RoHS: Y; PinCount: 8; DigiKeyPartNumber: LMP2012MMCT-ND; Code_JEDEC: MO-187-AA; ComponentLink1Description: LMP2012 Datasheet; ComponentLink1URL: http://www.national.com/ds/LM/LMP2012.pdf; ComponentLink2Description: LMP2012 Web Page; ComponentLink2URL: http://www.national.com/pf/LM/LMP2012.html; ComponentLink3Description: MUA08A Package Page; ComponentLink3URL: http://www.national.com/packaging/folders/mua08a.html
footprint MUA08A_N (TSOP, 8-Leads, Body 3x3mm, Pitch 0.65mm, IPC Medium Density)
footprint MUA08A_L (TSOP, 8-Leads, Body 3x3mm, Pitch 0.65mm, IPC High Density)
footprint MUA08A_M (TSOP, 8-Leads, Body 3x3mm, Pitch 0.65mm, IPC Low Density)
simulation model LMP2011 (SUBCKT)
pins on every part: 4 V- (power), 8 V+ (power)
part A pins: 1 OUTA (out), 2 INA- (in), 3 INA+ (in)
part B pins: 5 INB+ (in), 6 INB- (in), 7 OUTB (out)

## LMP2012WG-QMLV
designator U?
Dual, High Precision, Rail-to-Rail Output Operational Amplifier; PartNumber: LMP2012WG-QMLV; Manufacturer: National Semiconductor; CompType: Amplifiers; PackageTopMarking: NSZSSXXYY*A LMP2012*WG-QV Q*5962-06206*01VZA; PowerWise: N; MilaeroCode: DXX; Published: 4-Dec-2008; LatestRevisionDate: 13-Jan-2009; LatestRevisionNote: Sim Model Added.; DatasheetVersion: Oct-2008; PackageVersion: revF, Oct-2008; PackageReference: WG10A; Publisher: Altium Limited; PackageDescription: Cerpack, .270 x .241 x .070in, 10 Lead, .050in Pitch, Gull Wing; RoHS: N; PinCount: 10; ComponentLink1Description: LMP2012QML Datasheet; ComponentLink1URL: http://www.national.com/ds/LM/LMP2012QML.pdf; ComponentLink2Description: LMP2012 Web Page; ComponentLink2URL: http://www.national.com/pf/LM/LMP2012.html; ComponentLink3Description: WG10A Package Page; ComponentLink3URL: http://www.national.com/packaging/folders/wg10a.html
footprint WG10A_N (CERPACK, 10-Leads, Body 6.9x6.3mm, Pitch 1.27mm, IPC Medium Density)
footprint WG10A_L (CERPACK, 10-Leads, Body 6.9x6.3mm, Pitch 1.27mm, IPC High Density)
footprint WG10A_M (CERPACK, 10-Leads, Body 6.9x6.3mm, Pitch 1.27mm, IPC Low Density)
simulation model LMP2011 (SUBCKT)
pins on every part: 4 V- (power), 10 V+ (power)
part A pins: 1 OUTA (out), 2 INA- (in), 3 INA+ (in)
part B pins: 7 INB+ (in), 8 INB- (in), 9 OUTB (out)
part C pins: 5 NC, 6 NC

## LMP2012WGLQMLV
designator U?
Dual, High Precision, Rail-to-Rail Output Operational Amplifier; PartNumber: LMP2012WGLQMLV; Manufacturer: National Semiconductor; CompType: Amplifiers; PackageTopMarking: NSZSSXXYY*A LMP2012*WGLQV Q*5962L06206*01VZA; PowerWise: N; MilaeroCode: DXX; Published: 4-Dec-2008; LatestRevisionDate: 13-Jan-2009; LatestRevisionNote: Sim Model Added.; DatasheetVersion: Oct-2008; PackageVersion: revF, Oct-2008; PackageReference: WG10A; Publisher: Altium Limited; PackageDescription: Cerpack, .270 x .241 x .070in, 10 Lead, .050in Pitch, Gull Wing; RoHS: N; PinCount: 10; ComponentLink1Description: LMP2012QML Datasheet; ComponentLink1URL: http://www.national.com/ds/LM/LMP2012QML.pdf; ComponentLink2Description: LMP2012 Web Page; ComponentLink2URL: http://www.national.com/pf/LM/LMP2012.html; ComponentLink3Description: WG10A Package Page; ComponentLink3URL: http://www.national.com/packaging/folders/wg10a.html
footprint WG10A_N (CERPACK, 10-Leads, Body 6.9x6.3mm, Pitch 1.27mm, IPC Medium Density)
footprint WG10A_L (CERPACK, 10-Leads, Body 6.9x6.3mm, Pitch 1.27mm, IPC High Density)
footprint WG10A_M (CERPACK, 10-Leads, Body 6.9x6.3mm, Pitch 1.27mm, IPC Low Density)
simulation model LMP2011 (SUBCKT)
pins on every part: 4 V- (power), 10 V+ (power)
part A pins: 1 OUTA (out), 2 INA- (in), 3 INA+ (in)
part B pins: 7 INB+ (in), 8 INB- (in), 9 OUTB (out)
part C pins: 5 NC, 6 NC

## LMP2014MT
designator U?
Quad, High Precision, Rail-to-Rail Output Operational Amplifier; PartNumber: LMP2014MT; Manufacturer: National Semiconductor; CompType: Amplifiers; PackageTopMarking: NSUZXYTT*LMP20*14MT; PowerWise: N; Published: 4-Dec-2008; LatestRevisionDate: 13-Jan-2009; LatestRevisionNote: Sim Model Added.; DatasheetVersion: Jul-2005; PackageVersion: revD, Jun-2003; PackageReference: MTC14; Publisher: Altium Limited; PackageDescription: Molded TSSOP, JEDEC, 5 x 4.4 x 0.9mm Body, 14 Lead, 0.65mm Pitch; RoHS: Y; PinCount: 14; DigiKeyPartNumber: LMP2014MT-ND; Code_JEDEC: MO-153-AB-1; ComponentLink1Description: LMP2014MT Datasheet; ComponentLink1URL: http://www.national.com/ds/LM/LMP2014MT.pdf; ComponentLink2Description: LMP2014MT Web Page; ComponentLink2URL: http://www.national.com/pf/LM/LMP2014MT.html; ComponentLink3Description: MTC14 Package Page; ComponentLink3URL: http://www.national.com/packaging/folders/mtc14.html
footprint MTC14_N (TSOP, 14-Leads, Body 5x4.4mm, Pitch 0.65mm, IPC Medium Density)
footprint MTC14_L (TSOP, 14-Leads, Body 5x4.4mm, Pitch 0.65mm, IPC High Density)
footprint MTC14_M (TSOP, 14-Leads, Body 5x4.4mm, Pitch 0.65mm, IPC Low Density)
simulation model LMP2011 (SUBCKT)
pins on every part: 4 V+ (power), 11 V- (power)
part A pins: 1 OUTA (out), 2 INA- (in), 3 INA+ (in)
part B pins: 5 INB+ (in), 6 INB- (in), 7 OUTB (out)
part C pins: 8 OUTC (out), 9 INC- (in), 10 INC+ (in)
part D pins: 12 IND+ (in), 13 IND- (in), 14 OUTD (out)

## LMP2015MA
designator U?
Single, High Precision, Rail-to-Rail Output Operational Amplifier; PartNumber: LMP2015MA; Manufacturer: National Semiconductor; CompType: Amplifiers; PackageTopMarking: NSZXTT*LMP20*15MA; PowerWise: N; Published: 4-Dec-2008; LatestRevisionDate: 13-Jan-2009; LatestRevisionNote: Sim Model Added.; DatasheetVersion: Dec-2007; PackageVersion: revL, Sep-2006; PackageReference: M08A; Publisher: Altium Limited; PackageDescription: SOIC Narrow, 4.9 x 3.9 x 1.45mm, 8 Lead, 1.27mm Pitch; RoHS: Y; PinCount: 8; DigiKeyPartNumber: LMP2015MAX-ND; Code_JEDEC: MS-012-AA; Code_IPC: SOIC127P600-8; ComponentLink1Description: LMP2015 Datasheet; ComponentLink1URL: http://www.national.com/ds/LM/LMP2015.pdf; ComponentLink2Description: LMP2015 Web Page; ComponentLink2URL: http://www.national.com/pf/LM/LMP2015.html; ComponentLink3Description: M08A Package Page; ComponentLink3URL: http://www.national.com/packaging/folders/m08a.html
footprint M08A_N (SOIC, 8-Leads, Body 4.9x3.9mm, Pitch 1.27mm, IPC Medium Density)
footprint M08A_L (SOIC, 8-Leads, Body 4.9x3.9mm, Pitch 1.27mm, IPC High Density)
footprint M08A_M (SOIC, 8-Leads, Body 4.9x3.9mm, Pitch 1.27mm, IPC Low Density)
simulation model LMP2011 (SUBCKT)
pins: 1 NC, 2 IN- (in), 3 IN+ (in), 4 V- (power), 5 NC, 6 OUT (out), 7 V+ (power), 8 NC

## LMP2015MF
designator U?
Single, High Precision, Rail-to-Rail Output Operational Amplifier; PartNumber: LMP2015MF; Manufacturer: National Semiconductor; CompType: Amplifiers; PackageTopMarking: AD5A*XTT; PowerWise: N; Published: 4-Dec-2008; LatestRevisionDate: 13-Jan-2009; LatestRevisionNote: Sim Model Added.; DatasheetVersion: Dec-2007; PackageVersion: revD, Aug-2008; PackageReference: MF05A; Publisher: Altium Limited; PackageDescription: Molded SOT-23, .115 x .063 x .040 in Body, 5 Lead, .0375 in Pitch; RoHS: Y; PinCount: 5; DigiKeyPartNumber: LMP2015MFCT-ND; Code_IPC: SOT23-5; ComponentLink1Description: LMP2015 Datasheet; ComponentLink1URL: http://www.national.com/ds/LM/LMP2015.pdf; ComponentLink2Description: LMP2015 Web Page; ComponentLink2URL: http://www.national.com/pf/LM/LMP2015.html; ComponentLink3Description: MF05A Package Page; ComponentLink3URL: http://www.national.com/packaging/folders/mf05a.html
footprint MF05A_N (SOT23, 5-Leads, Body 2.9x1.6mm, Pitch 0.95mm, Lead Span 2.8mm, IPC Medium Density)
footprint MF05A_L (SOT23, 5-Leads, Body 2.9x1.6mm, Pitch 0.95mm, Lead Span 2.8mm, IPC High Density)
footprint MF05A_M (SOT23, 5-Leads, Body 2.9x1.6mm, Pitch 0.95mm, Lead Span 2.8mm, IPC Low Density)
simulation model LMP2011 (SUBCKT)
pins: 1 OUT (out), 2 V- (power), 3 IN+ (in), 4 IN- (in), 5 V+ (power)

## LMP2016MA
designator U?
Dual, High Precision, Rail-to-Rail Output Operational Amplifier; PartNumber: LMP2016MA; Manufacturer: National Semiconductor; CompType: Amplifiers; PackageTopMarking: NSZXTT*LMP20*16MA; PowerWise: N; Published: 4-Dec-2008; LatestRevisionDate: 13-Jan-2009; LatestRevisionNote: Sim Model Added.; DatasheetVersion: Dec-2007; PackageVersion: revL, Sep-2006; PackageReference: M08A; Publisher: Altium Limited; PackageDescription: SOIC Narrow, 4.9 x 3.9 x 1.45mm, 8 Lead, 1.27mm Pitch; RoHS: Y; PinCount: 8; DigiKeyPartNumber: LMP2016MAX-ND; Code_JEDEC: MS-012-AA; Code_IPC: SOIC127P600-8; ComponentLink1Description: LMP2016 Datasheet; ComponentLink1URL: http://www.national.com/ds/LM/LMP2016.pdf; ComponentLink2Description: LMP2016 Web Page; ComponentLink2URL: http://www.national.com/pf/LM/LMP2016.html; ComponentLink3Description: M08A Package Page; ComponentLink3URL: http://www.national.com/packaging/folders/m08a.html
footprint M08A_N (SOIC, 8-Leads, Body 4.9x3.9mm, Pitch 1.27mm, IPC Medium Density)
footprint M08A_L (SOIC, 8-Leads, Body 4.9x3.9mm, Pitch 1.27mm, IPC High Density)
footprint M08A_M (SOIC, 8-Leads, Body 4.9x3.9mm, Pitch 1.27mm, IPC Low Density)
simulation model LMP2011 (SUBCKT)
pins: 1 NC, 2 IN- (in), 3 IN+ (in), 4 V- (power), 5 NC, 6 OUT (out), 7 V+ (power), 8 NC

## LMP2016MM
designator U?
Dual, High Precision, Rail-to-Rail Output Operational Amplifier; PartNumber: LMP2016MM; Manufacturer: National Semiconductor; CompType: Amplifiers; PackageTopMarking: ZXTT*AE5A; PowerWise: N; Published: 4-Dec-2008; LatestRevisionDate: 13-Jan-2009; LatestRevisionNote: Sim Model Added.; DatasheetVersion: Dec-2007; PackageVersion: revF, Apr-2008; PackageReference: MUA08A; Publisher: Altium Limited; PackageDescription: MINI SOIC, .118 x .118 x .034in, 8 Lead, .0256in Pitch; RoHS: Y; PinCount: 8; DigiKeyPartNumber: LMP2016MMCT-ND; Code_JEDEC: MO-187-AA; ComponentLink1Description: LMP2016 Datasheet; ComponentLink1URL: http://www.national.com/ds/LM/LMP2016.pdf; ComponentLink2Description: LMP2016 Web Page; ComponentLink2URL: http://www.national.com/pf/LM/LMP2016.html; ComponentLink3Description: MUA08A Package Page; ComponentLink3URL: http://www.national.com/packaging/folders/mua08a.html
footprint MUA08A_N (TSOP, 8-Leads, Body 3x3mm, Pitch 0.65mm, IPC Medium Density)
footprint MUA08A_L (TSOP, 8-Leads, Body 3x3mm, Pitch 0.65mm, IPC High Density)
footprint MUA08A_M (TSOP, 8-Leads, Body 3x3mm, Pitch 0.65mm, IPC Low Density)
simulation model LMP2011 (SUBCKT)
pins on every part: 4 V- (power), 8 V+ (power)
part A pins: 1 OUTA (out), 2 INA- (in), 3 INA+ (in)
part B pins: 5 INB+ (in), 6 INB- (in), 7 OUTB (out)

## LMP2021MA
designator U?
Zero Drift, Low Noise, EMI Hardened Amplifier; PartNumber: LMP2021MA; Manufacturer: National Semiconductor; CompType: Amplifiers; PackageTopMarking: NSZXTT*LMP20*21MA; PowerWise: N; Published: 4-Dec-2008; LatestRevisionDate: 13-Jan-2009; LatestRevisionNote: Sim Model Added.; DatasheetVersion: Nov-2008; PackageVersion: revL, Sep-2006; PackageReference: M08A; Publisher: Altium Limited; PackageDescription: SOIC Narrow, 4.9 x 3.9 x 1.45mm, 8 Lead, 1.27mm Pitch; RoHS: Y; PinCount: 8; Code_JEDEC: MS-012-AA; Code_IPC: SOIC127P600-8; ComponentLink1Description: LMP2021 Datasheet; ComponentLink1URL: http://www.national.com/ds/LM/LMP2021.pdf; ComponentLink2Description: LMP2021 Web Page; ComponentLink2URL: http://www.national.com/pf/LM/LMP2021.html; ComponentLink3Description: M08A Package Page; ComponentLink3URL: http://www.national.com/packaging/folders/m08a.html
footprint M08A_N (SOIC, 8-Leads, Body 4.9x3.9mm, Pitch 1.27mm, IPC Medium Density)
footprint M08A_L (SOIC, 8-Leads, Body 4.9x3.9mm, Pitch 1.27mm, IPC High Density)
footprint M08A_M (SOIC, 8-Leads, Body 4.9x3.9mm, Pitch 1.27mm, IPC Low Density)
simulation model LMP2021 (SUBCKT)
pins: 1 NC, 2 IN- (in), 3 IN+ (in), 4 V- (power), 5 NC, 6 OUT (out), 7 V+ (power), 8 NC

## LMP2021MF
designator U?
Zero Drift, Low Noise, EMI Hardened Amplifier; PartNumber: LMP2021MF; Manufacturer: National Semiconductor; CompType: Amplifiers; PackageTopMarking: AF5A*XTT; Published: 4-Dec-2008; LatestRevisionDate: 13-Jan-2009; LatestRevisionNote: Sim Model Added.; DatasheetVersion: Nov-2008; PackageVersion: revD, Aug-2008; PackageReference: MF05A; Publisher: Altium Limited; PackageDescription: Molded SOT-23, .115 x .063 x .040 in Body, 5 Lead, .0375 in Pitch; RoHS: Y; PinCount: 5; DigiKeyPartNumber: LMP2021MF-ND; Code_IPC: SOT23-5; ComponentLink1Description: LMP2021 Datasheet; ComponentLink1URL: http://www.national.com/ds/LM/LMP2021.pdf; ComponentLink2Description: LMP2021 Web Page; ComponentLink2URL: http://www.national.com/pf/LM/LMP2021.html; ComponentLink3Description: MF05A Package Page; ComponentLink3URL: http://www.national.com/packaging/folders/mf05a.html
footprint MF05A_N (SOT23, 5-Leads, Body 2.9x1.6mm, Pitch 0.95mm, Lead Span 2.8mm, IPC Medium Density)
footprint MF05A_L (SOT23, 5-Leads, Body 2.9x1.6mm, Pitch 0.95mm, Lead Span 2.8mm, IPC High Density)
footprint MF05A_M (SOT23, 5-Leads, Body 2.9x1.6mm, Pitch 0.95mm, Lead Span 2.8mm, IPC Low Density)
simulation model LMP2021 (SUBCKT)
pins: 1 OUT (out), 2 V- (power), 3 IN+ (in), 4 IN- (in), 5 V+ (power)

## LMP2022MA
designator U?
Zero Drift, Low Noise, EMI Hardened Amplifier; PartNumber: LMP2022MA; Manufacturer: National Semiconductor; CompType: Amplifiers; PackageTopMarking: NSZXTT*LMP20*22MA; PowerWise: N; Published: 4-Dec-2008; LatestRevisionDate: 13-Jan-2009; LatestRevisionNote: Sim Model Added.; DatasheetVersion: Nov-2008; PackageVersion: revL, Sep-2006; PackageReference: M08A; Publisher: Altium Limited; PackageDescription: SOIC Narrow, 4.9 x 3.9 x 1.45mm, 8 Lead, 1.27mm Pitch; RoHS: Y; PinCount: 8; Code_JEDEC: MS-012-AA; Code_IPC: SOIC127P600-8; ComponentLink1Description: LMP2022 Datasheet; ComponentLink1URL: http://www.national.com/ds/LM/LMP2022.pdf; ComponentLink2Description: LMP2022 Web Page; ComponentLink2URL: http://www.national.com/pf/LM/LMP2022.html; ComponentLink3Description: M08A Package Page; ComponentLink3URL: http://www.national.com/packaging/folders/m08a.html
footprint M08A_N (SOIC, 8-Leads, Body 4.9x3.9mm, Pitch 1.27mm, IPC Medium Density)
footprint M08A_L (SOIC, 8-Leads, Body 4.9x3.9mm, Pitch 1.27mm, IPC High Density)
footprint M08A_M (SOIC, 8-Leads, Body 4.9x3.9mm, Pitch 1.27mm, IPC Low Density)
simulation model LMP2021 (SUBCKT)
pins on every part: 4 V- (power), 8 V+ (power)
part A pins: 1 OUTA (out), 2 INA- (in), 3 INA+ (in)
part B pins: 5 INB+ (in), 6 INB- (in), 7 OUTB (out)

## LMP2022MM
designator U?
Zero Drift, Low Noise, EMI Hardened Amplifier; PartNumber: LMP2022MM; Manufacturer: National Semiconductor; CompType: Amplifiers; PackageTopMarking: ZXTT*AV5A; PowerWise: N; Published: 4-Dec-2008; LatestRevisionDate: 13-Jan-2009; LatestRevisionNote: Sim Model Added.; DatasheetVersion: Nov-2008; PackageVersion: revF, Apr-2008; PackageReference: MUA08A; Publisher: Altium Limited; PackageDescription: MINI SOIC, .118 x .118 x .034in, 8 Lead, .0256in Pitch; RoHS: Y; PinCount: 8; Code_JEDEC: MO-187-AA; ComponentLink1Description: LMP2022 Datasheet; ComponentLink1URL: http://www.national.com/ds/LM/LMP2022.pdf; ComponentLink2Description: LMP2022 Web Page; ComponentLink2URL: http://www.national.com/pf/LM/LMP2022.html; ComponentLink3Description: MUA08A Package Page; ComponentLink3URL: http://www.national.com/packaging/folders/mua08a.html
footprint MUA08A_N (TSOP, 8-Leads, Body 3x3mm, Pitch 0.65mm, IPC Medium Density)
footprint MUA08A_L (TSOP, 8-Leads, Body 3x3mm, Pitch 0.65mm, IPC High Density)
footprint MUA08A_M (TSOP, 8-Leads, Body 3x3mm, Pitch 0.65mm, IPC Low Density)
simulation model LMP2021 (SUBCKT)
pins on every part: 4 V- (power), 8 V+ (power)
part A pins: 1 OUTA (out), 2 INA- (in), 3 INA+ (in)
part B pins: 5 INB+ (in), 6 INB- (in), 7 OUTB (out)

## LMP2231AMA
designator U?
Single Micropower, 1.6V, Precision Operational Amplifier with CMOS Inputs; PartNumber: LMP2231AMA; Manufacturer: National Semiconductor; CompType: Amplifiers; PackageTopMarking: NSZXTT*LMP22*31AMA; PowerWise: N; Published: 4-Dec-2008; DatasheetVersion: Jun-2008; PackageVersion: revL, Sep-2006; PackageReference: M08A; Publisher: Altium Limited; PackageDescription: SOIC Narrow, 4.9 x 3.9 x 1.45mm, 8 Lead, 1.27mm Pitch; RoHS: Y; PinCount: 8; DigiKeyPartNumber: LMP2231AMAE-ND; Code_JEDEC: MS-012-AA; Code_IPC: SOIC127P600-8; ComponentLink1Description: LMP2231 Datasheet; ComponentLink1URL: http://www.national.com/ds/LM/LMP2231.pdf; ComponentLink2Description: LMP2231 Web Page; ComponentLink2URL: http://www.national.com/pf/LM/LMP2231.html; ComponentLink3Description: M08A Package Page; ComponentLink3URL: http://www.national.com/packaging/folders/m08a.html
footprint M08A_N (SOIC, 8-Leads, Body 4.9x3.9mm, Pitch 1.27mm, IPC Medium Density)
footprint M08A_L (SOIC, 8-Leads, Body 4.9x3.9mm, Pitch 1.27mm, IPC High Density)
footprint M08A_M (SOIC, 8-Leads, Body 4.9x3.9mm, Pitch 1.27mm, IPC Low Density)
pins: 1 NC, 2 IN- (in), 3 IN+ (in), 4 V- (power), 5 NC, 6 OUT (out), 7 V+ (power), 8 NC

## LMP2231AMF
designator U?
Single Micropower, 1.6V, Precision Operational Amplifier with CMOS Inputs; PartNumber: LMP2231AMF; Manufacturer: National Semiconductor; CompType: Amplifiers; PackageTopMarking: AL5A*XTT; PowerWise: N; Published: 4-Dec-2008; DatasheetVersion: Jun-2008; PackageVersion: revD, Aug-2008; PackageReference: MF05A; Publisher: Altium Limited; PackageDescription: Molded SOT-23, .115 x .063 x .040 in Body, 5 Lead, .0375 in Pitch; RoHS: Y; PinCount: 5; DigiKeyPartNumber: LMP2231AMFCT-ND; Code_IPC: SOT23-5; ComponentLink1Description: LMP2231 Datasheet; ComponentLink1URL: http://www.national.com/ds/LM/LMP2231.pdf; ComponentLink2Description: LMP2231 Web Page; ComponentLink2URL: http://www.national.com/pf/LM/LMP2231.html; ComponentLink3Description: MF05A Package Page; ComponentLink3URL: http://www.national.com/packaging/folders/mf05a.html
footprint MF05A_N (SOT23, 5-Leads, Body 2.9x1.6mm, Pitch 0.95mm, Lead Span 2.8mm, IPC Medium Density)
footprint MF05A_L (SOT23, 5-Leads, Body 2.9x1.6mm, Pitch 0.95mm, Lead Span 2.8mm, IPC High Density)
footprint MF05A_M (SOT23, 5-Leads, Body 2.9x1.6mm, Pitch 0.95mm, Lead Span 2.8mm, IPC Low Density)
pins: 1 OUT (out), 2 V- (power), 3 IN+ (in), 4 IN- (in), 5 V+ (power)

## LMP2231BMA
designator U?
Single Micropower, 1.6V, Precision Operational Amplifier with CMOS Inputs; PartNumber: LMP2231BMA; Manufacturer: National Semiconductor; CompType: Amplifiers; PackageTopMarking: NSZXTT*LMP22*31BMA; PowerWise: N; Published: 4-Dec-2008; DatasheetVersion: Jun-2008; PackageVersion: revL, Sep-2006; PackageReference: M08A; Publisher: Altium Limited; PackageDescription: SOIC Narrow, 4.9 x 3.9 x 1.45mm, 8 Lead, 1.27mm Pitch; RoHS: Y; PinCount: 8; DigiKeyPartNumber: LMP2231BMAE-ND; Code_JEDEC: MS-012-AA; Code_IPC: SOIC127P600-8; ComponentLink1Description: LMP2231 Datasheet; ComponentLink1URL: http://www.national.com/ds/LM/LMP2231.pdf; ComponentLink2Description: LMP2231 Web Page; ComponentLink2URL: http://www.national.com/pf/LM/LMP2231.html; ComponentLink3Description: M08A Package Page; ComponentLink3URL: http://www.national.com/packaging/folders/m08a.html
footprint M08A_N (SOIC, 8-Leads, Body 4.9x3.9mm, Pitch 1.27mm, IPC Medium Density)
footprint M08A_L (SOIC, 8-Leads, Body 4.9x3.9mm, Pitch 1.27mm, IPC High Density)
footprint M08A_M (SOIC, 8-Leads, Body 4.9x3.9mm, Pitch 1.27mm, IPC Low Density)
pins: 1 NC, 2 IN- (in), 3 IN+ (in), 4 V- (power), 5 NC, 6 OUT (out), 7 V+ (power), 8 NC